# Altium footprint library 61802525123.PcbLib: 1 footprints
Each footprint in its own frame and in the unit in brackets; x right, y up, seen from the top. Pads: shape width x height; smd on the part's side, far side on the other; paste and mask are expansions set on the pad; w line width, h text height; cw(c..) or ccw(c..) is an arc to the next point about the centre after c.
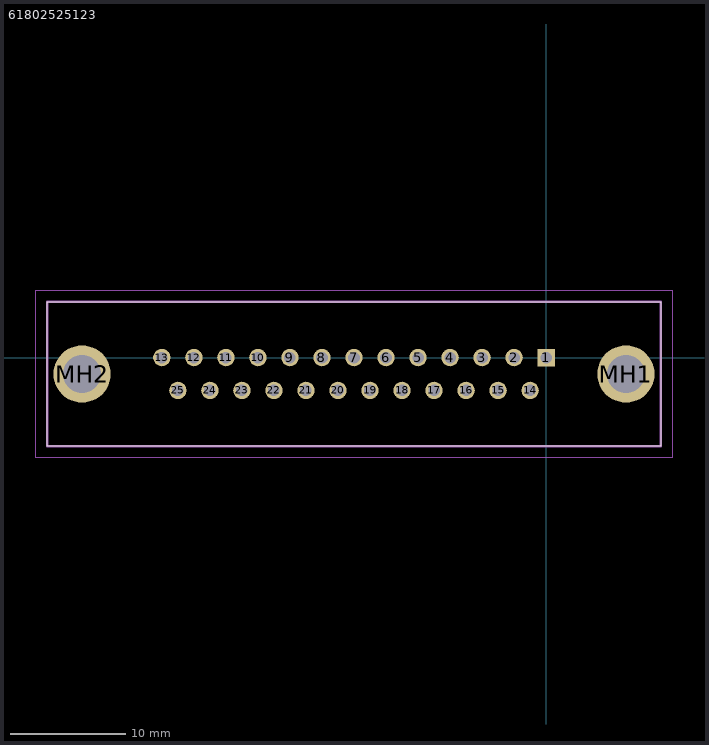
[diagram p0: the footprint, top view; thin cyan lines are the x and y axes]

## 61802525123 [mm]
pads (27):
  rect 1.5x1.5 hole 1: 1(0,0)
  round 1.5 hole 1: 2(-2.77,0) 3(-5.54,0) 4(-8.31,0) 5(-11.08,0) 6(-13.85,0) 7(-16.62,0) 8(-19.39,0) 9(-22.16,0) 10(-24.93,0) 11(-27.7,0) 12(-30.47,0) 13(-33.24,0) 14(-1.385,-2.84) 15(-4.155,-2.84) 16(-6.925,-2.84) 17(-9.695,-2.84) 18(-12.465,-2.84) 19(-15.235,-2.84) 20(-18.005,-2.84) 21(-20.775,-2.84) 22(-23.545,-2.84) 23(-26.315,-2.84) 24(-29.085,-2.84) 25(-31.855,-2.84)
  round 4.95 hole 3.3: MH1(6.9,-1.42) MH2(-40.14,-1.42)
Top Overlay:
  lines w0.1: -43.14,-7.67 9.9,-7.67 9.9,4.83 -43.14,4.83 -43.14,-7.67
Mechanical 15:
  lines w0.2: -43.14,-7.67 9.9,-7.67 9.9,4.83 -43.14,4.83 -43.14,-7.67
Mechanical 20:
  lines w0.1: -44.14,-8.67 10.9,-8.67 10.9,5.83 -44.14,5.83 -44.14,-8.67